# Altium integrated library 2.4GHz_PCB_Antena.IntLib: 1 symbol
Pins are listed as number, name and electrical type; pins without a type are passive.

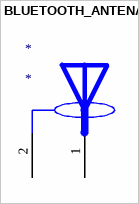
[diagram p0: symbol BLUETOOTH_ANTENA]

## BLUETOOTH_ANTENA
designator *
footprint BLUETOOTH_ANTENA - duplicate
pins: 1, 2 GND